# Altium footprint library SC_SDIP8.PcbLib: 1 footprints
Each footprint in its own frame and in the unit in brackets; x right, y up, seen from the top. Pads: shape width x height; smd on the part's side, far side on the other; paste and mask are expansions set on the pad; w line width, h text height; cw(c..) or ccw(c..) is an arc to the next point about the centre after c.
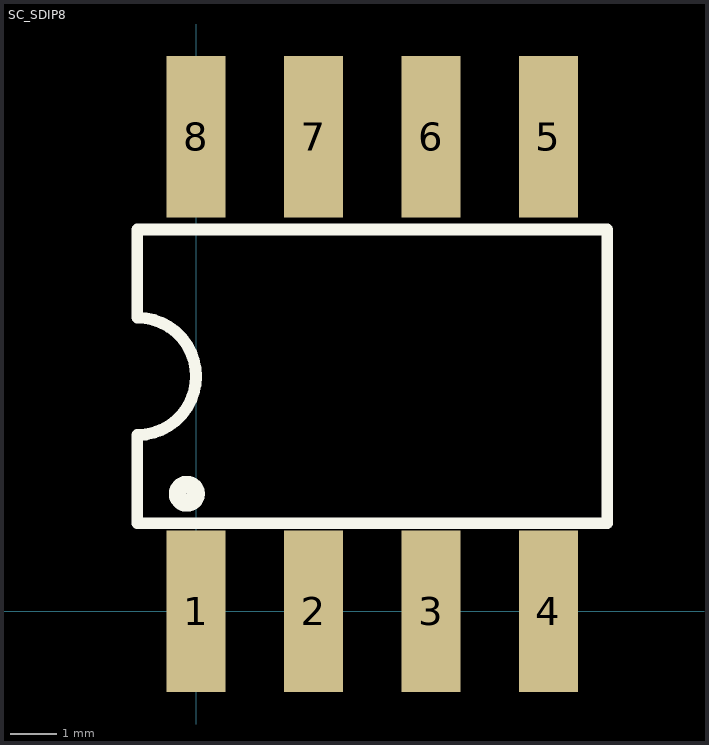
[diagram p0: the footprint, top view; thin cyan lines are the x and y axes]

## SC_SDIP8 [mm]
pads (8):
  rect 1.27x3.5 smd: 1(0,0) 2(2.54,0) 3(5.08,0) 4(7.62,0) 5(7.62,10.26) 6(5.08,10.26) 7(2.54,10.26) 8(0,10.26)
Top Overlay:
  circle w0.38: c-0.198,2.54 r0.198
  lines w0.254: -1.27,1.905 -1.27,3.81 ccw(c-1.27,5.08) 0,5.08 ccw(c-1.27,5.08) -1.27,6.35 -1.27,8.255 8.89,8.255 8.89,1.905 -1.27,1.905
3D body: height 4.75, standoff 0, extent -1.875,-1.05 9.275,11.25